# EAGLE library part SPI-1.27-10-PIN-HEADER (library SPI 1.27mm 10pin header)
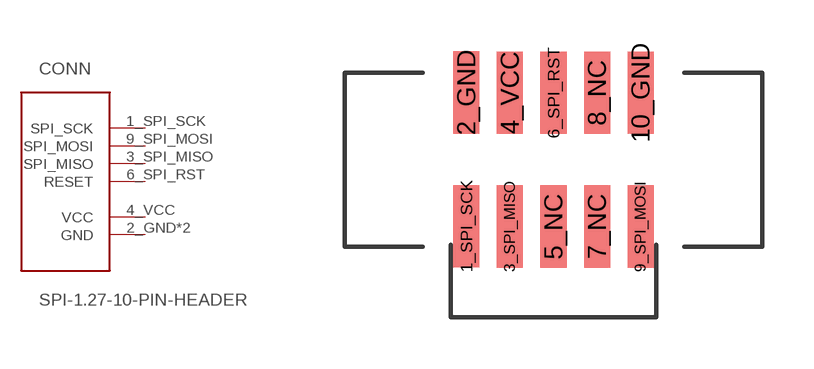
[diagram p0: symbol with the pads of SMT-JTAG; footprint SMT-JTAG]

Designator prefix CONN

## SPI-1.27-10-PIN-HEADER  [SMT-JTAG]
1_SPI_SCK  SPI_SCK
2_GND  GND  pwr
3_SPI_MISO  SPI_MISO
4_VCC  VCC
6_SPI_RST  RESET
9_SPI_MOSI  SPI_MOSI
10_GND  GND  pwr

## Footprint SMT-JTAG (pad centres in mm)
smd 0.76 x 2.4: 1_SPI_SCK -2.54,-1.94; 2_GND -2.54,1.955; 3_SPI_MISO -1.27,-1.95; 4_VCC -1.27,1.95; 5_NC 0,-1.95; 6_SPI_RST 0,1.95; 7_NC 1.27,-1.95; 8_NC 1.27,1.95; 9_SPI_MOSI 2.54,-1.95; 10_GND 2.54,1.95